# Altium footprint library Footprints.PcbLib: 52 footprints (part 1 of 4)
Each footprint in its own frame and in the unit in brackets; x right, y up, seen from the top. Pads: shape width x height; smd on the part's side, far side on the other; paste and mask are expansions set on the pad; w line width, h text height; cw(c..) or ccw(c..) is an arc to the next point about the centre after c.
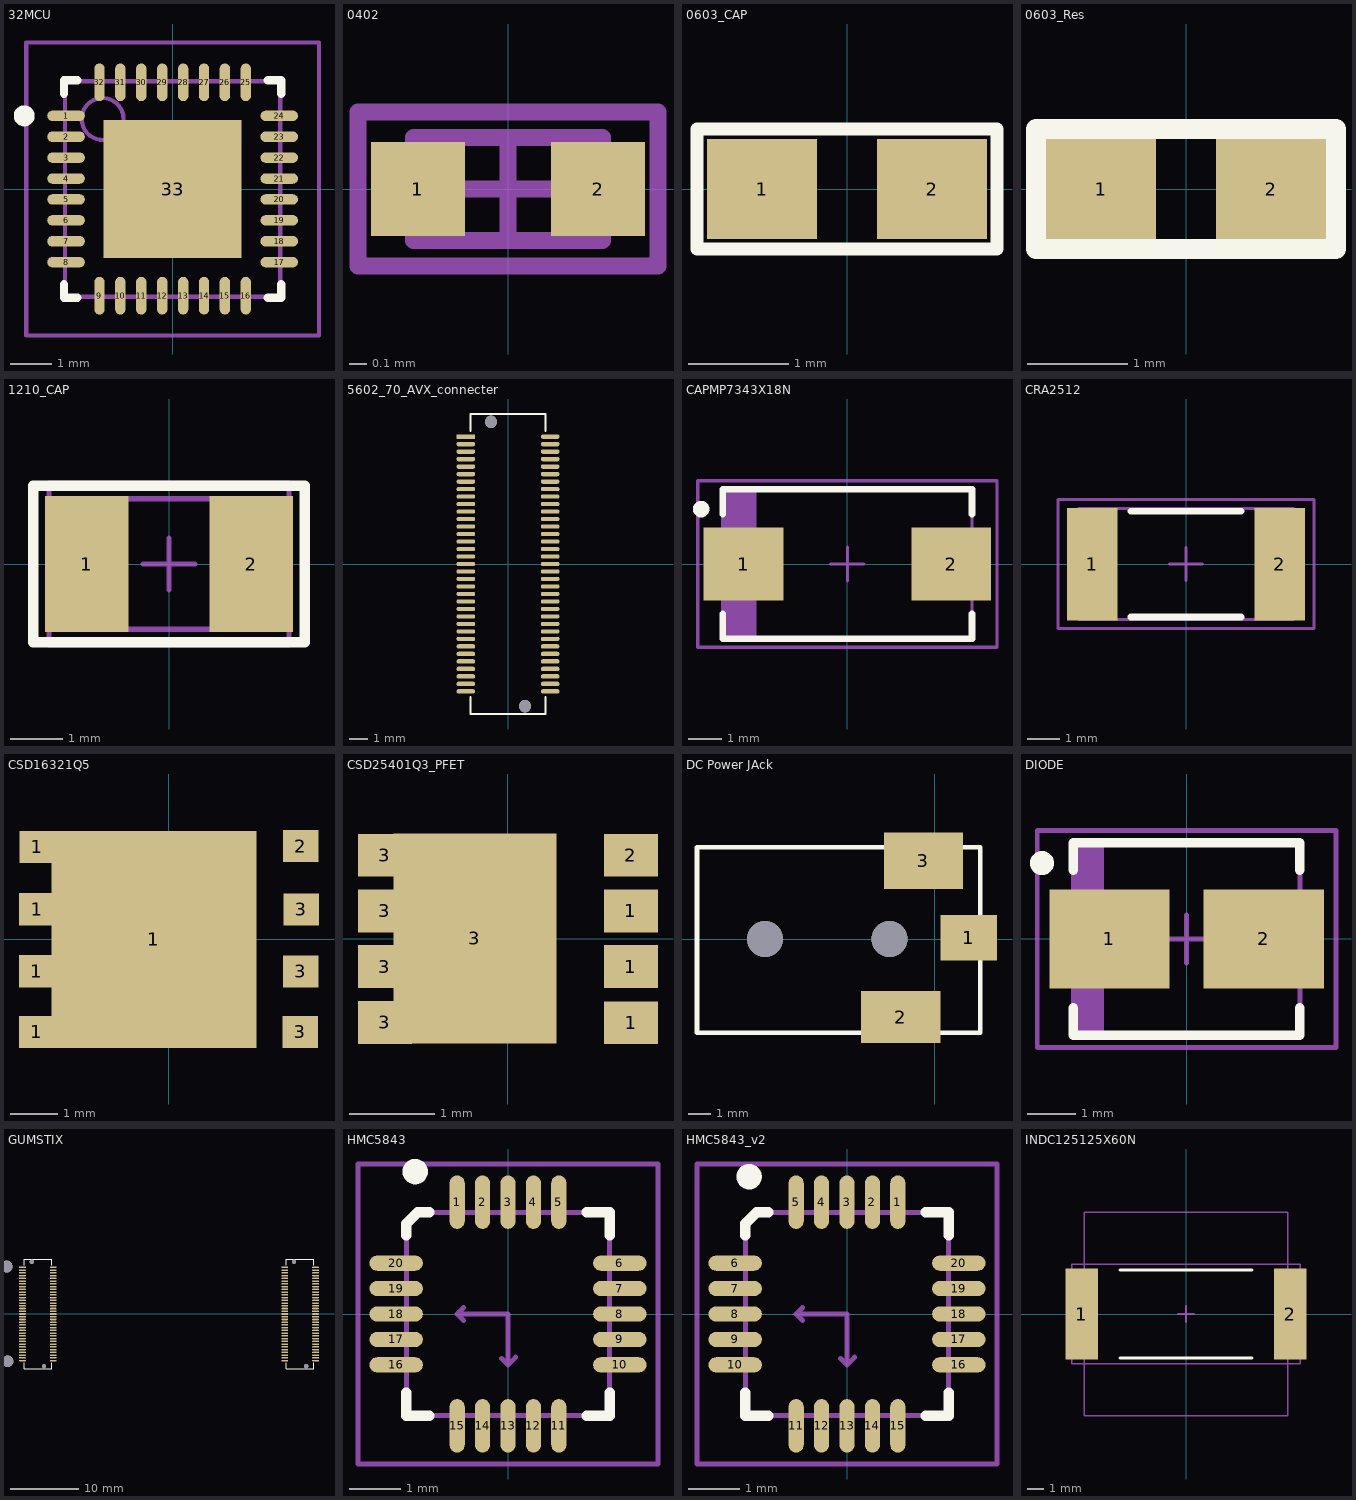
[diagram p0: the footprints below, top view; thin cyan lines are the x and y axes]

## 32MCU [mm] "32-Pin Quad Flat No-Lead 0.5 mm Pitch, IPC Low Density"
height 1
pads (33):
  oval 0.9x0.25 smd: 1(-2.55,1.75) 2(-2.55,1.25) 3(-2.55,0.75) 4(-2.55,0.25) 5(-2.55,-0.25) 6(-2.55,-0.75) 7(-2.55,-1.25) 8(-2.55,-1.75) 17(2.55,-1.75) 18(2.55,-1.25) 19(2.55,-0.75) 20(2.55,-0.25) 21(2.55,0.25) 22(2.55,0.75) 23(2.55,1.25) 24(2.55,1.75)
  oval 0.25x0.9 smd: 9(-1.75,-2.55) 10(-1.25,-2.55) 11(-0.75,-2.55) 12(-0.25,-2.55) 13(0.25,-2.55) 14(0.75,-2.55) 15(1.25,-2.55) 16(1.75,-2.55) 25(1.75,2.55) 26(1.25,2.55) 27(0.75,2.55) 28(0.25,2.55) 29(-0.25,2.55) 30(-0.75,2.55) 31(-1.25,2.55) 32(-1.75,2.55)
  rect 3.3x3.3 smd: 33(0,0)
Top Overlay:
  circle w0.25: c-3.55,1.75 r0.125
  lines w0.2: -2.6,-2.275 -2.6,-2.6 -2.275,-2.6 ; -2.6,2.275 -2.6,2.6 -2.275,2.6 ; 2.275,-2.6 2.6,-2.6 2.6,-2.275 ; 2.275,2.6 2.6,2.6 2.6,2.275
Mechanical 13:
  circle w0.1: c-1.675,1.675 r0.5
  lines w0.1: -2.575,-2.575 2.575,-2.575 2.575,2.575 -2.575,2.575 -2.575,-2.575
Mechanical 15:
  lines w0.1: -0.5,0 0.5,0 ; 0,-0.5 0,0.5 ; -3.5,-3.5 3.5,-3.5 3.5,3.5 -3.5,3.5 -3.5,-3.5
3D body: height 1, standoff 0, extent -2.575,-2.575 2.575,2.575

## 0402 [mm]
height 0.56
pads (2):
  rect 0.55x0.55 smd: 1(-0.525,0) 2(0.525,0)
Mechanical 13:
  lines w0.1: -0.55,-0.3 -0.55,0.3 0.55,0.3 0.55,-0.3 -0.55,-0.3
Mechanical 15:
  lines w0.1: -0.3,0 0.3,0 ; 0,-0.3 0,0.3 ; -0.875,-0.45 -0.875,0.45 0.875,0.45 0.875,-0.45 -0.875,-0.45
3D body: height 0.56, standoff 0, extent -0.55,-0.3 0.55,0.3

## 0603_CAP [mm] "Chip Resistor; Body 1.6 x 0.8 mm (LxW typ)"
height 1.35
pads (2):
  rect 1.1x1 smd: 1(-0.85,0) 2(0.85,0)
Top Overlay:
  lines w0.127: -1.5,-0.6 -1.5,0.6 1.5,0.6 1.5,-0.6 -1.5,-0.6
3D body: height 1, standoff 0, extent -0.9,-0.6 0.9,0.6

## 0603_Res [mm] "Chip Resistor; Body 1.6 x 0.8 mm (LxW typ)"
height 1.35
pads (2):
  rect 1.1x1 smd: 1(-0.85,0) 2(0.85,0)
Top Overlay:
  lines w0.2: -1.5,-0.6 -1.5,0.6 1.5,0.6 1.5,-0.6 -1.5,-0.6
3D body: height 1, standoff 0, extent -0.9,-0.6 0.9,0.6

## 1210_CAP [mm] "Chip Capacitor, 2-Leads, Body 3.2x2.5mm, IPC Medium Density"
height 1.6
pads (2):
  rect 1.6x2.6 smd: 1(-1.575,0) 2(1.575,0)
Top Overlay:
  lines w0.2: -2.6,-1.5 -2.6,1.5 2.6,1.5 2.6,-1.5 -2.6,-1.5
Mechanical 13:
  lines w0.1: -1.6,-1.25 1.6,-1.25 1.6,1.25 -1.6,1.25 -1.6,-1.25
Mechanical 15:
  lines w0.1: -0.5,0 0.5,0 ; 0,-0.5 0,0.5 ; -2.3,-1.55 2.3,-1.55 2.3,1.55 -2.3,1.55 -2.3,-1.55
3D body: height 1.6, standoff 0, extent -1.6,-1.25 1.6,1.25

## 5602_70_AVX_connecter [mm]
pads (70):
  rect 1x0.23 smd: 1(-2.25,6.8)
  oval 1x0.23 smd: 2(-2.25,6.4) 3(-2.25,6) 4(-2.25,5.6) 5(-2.25,5.2) 6(-2.25,4.8) 7(-2.25,4.4) 8(-2.25,4) 9(-2.25,3.6) 10(-2.25,3.2) 11(-2.25,2.8) 12(-2.25,2.4) 13(-2.25,2) 14(-2.25,1.6) 15(-2.25,1.2) 16(-2.25,0.8) 17(-2.25,0.4) 18(-2.25,0) 19(-2.25,-0.4) 20(-2.25,-0.8) 21(-2.25,-1.2) 22(-2.25,-1.6) 23(-2.25,-2) 24(-2.25,-2.4) 25(-2.25,-2.8) 26(-2.25,-3.2) 27(-2.25,-3.6) 28(-2.25,-4) 29(-2.25,-4.4) 30(-2.25,-4.8) 31(-2.25,-5.2) 32(-2.25,-5.6) 33(-2.25,-6) 34(-2.25,-6.4) 35(-2.25,-6.8) 36(2.25,-6.8) 37(2.25,-6.4) 38(2.25,-6) 39(2.25,-5.6) 40(2.25,-5.2) 41(2.25,-4.8) 42(2.25,-4.4) 43(2.25,-4) 44(2.25,-3.6) 45(2.25,-3.2) 46(2.25,-2.8) 47(2.25,-2.4) 48(2.25,-2) 49(2.25,-1.6) 50(2.25,-1.2) 51(2.25,-0.8) 52(2.25,-0.4) 53(2.25,0) 54(2.25,0.4) 55(2.25,0.8) 56(2.25,1.2) 57(2.25,1.6) 58(2.25,2) 59(2.25,2.4) 60(2.25,2.8) 61(2.25,3.2) 62(2.25,3.6) 63(2.25,4) 64(2.25,4.4) 65(2.25,4.8) 66(2.25,5.2) 67(2.25,5.6) 68(2.25,6) 69(2.25,6.4) 70(2.25,6.8)
via -0.9,7.6 diameter 0.65 hole 0.65
via 0.9,-7.6 diameter 0.65 hole 0.65
Top Overlay:
  lines w0.127: -2,-7.1 -2,-8.01 2,-8.01 2,-7.1 ; -2,7.1 -2,8.01 2,8.01 2,7.1
3D body: height 1.45, standoff 0, extent -2,-8 2,8
3D body: height 0, standoff -0.45, extent 0.575,-7.925 1.222,-7.276
3D body: height 0, standoff -0.45, extent -1.225,7.275 -0.578,7.924

## CAPMP7343X18N [mm] "Molded Capacitor, 2-Leads, Body 7.3x4.3mm, IPC Medium Density"
height 1.8
pads (2):
  rect 2.4x2.2 smd: 1(-3.125,0) 2(3.125,0)
Top Overlay:
  circle w0.25: c-4.4,1.65 r0.125
  lines w0.2: -3.75,-1.5 -3.75,-2.25 3.75,-2.25 3.75,-1.5 ; -3.75,1.5 -3.75,2.25 3.75,2.25 3.75,1.5
Mechanical 13:
  rectangle: -3.75,-2.25 -2.741,2.25
  lines w0.1: -3.75,-2.25 -3.75,2.25 3.75,2.25 3.75,-2.25 -3.75,-2.25
Mechanical 15:
  lines w0.1: -0.5,0 0.5,0 ; 0,-0.5 0,0.5 ; -4.5,-2.5 -4.5,2.5 4.5,2.5 4.5,-2.5 -4.5,-2.5
3D body: height 1.8, standoff 0, extent -3.75,-2.25 3.75,2.25

## CRA2512 [mm] "Chip Resistor, 2-Leads, Body 6.4x3.2mm, IPC Medium Density"
height 0.8
pads (2):
  rect 1.55x3.45 smd: 1(-2.875,0) 2(2.875,0)
Top Overlay:
  lines w0.2: -1.7,-1.625 1.7,-1.625 ; -1.7,1.625 1.7,1.625
Mechanical 13:
  lines w0.1: -3.3,-1.7 3.3,-1.7 3.3,1.7 -3.3,1.7 -3.3,-1.7
Mechanical 15:
  lines w0.1: -0.5,0 0.5,0 ; 0,-0.5 0,0.5 ; -3.925,-1.975 3.925,-1.975 3.925,1.975 -3.925,1.975 -3.925,-1.975
3D body: height 0.8, standoff 0, extent -3.3,-1.7 3.3,1.7

## CSD16321Q5 [mm]
height 1.05
pads (9):
  rect 0.75x0.675 smd: 1(-2.775,-0.678) 1(-2.772,-1.951) 1(-2.77,0.625) 1(-2.767,1.933) 2(2.765,1.951) 3(2.755,-1.949) 3(2.765,-0.679) 3(2.775,0.621)
  rect 4.3x4.56 smd: 1(-0.315,-0.009)
3D body: height 1.05, standoff 0, extent -3.145,-2.289 3.135,2.271

## CSD25401Q3_PFET [mm]
height 1.05
pads (9):
  rect 0.63x0.5 smd: 1(1.435,-0.325) 1(1.435,0.325) 1(1.435,-0.98) 2(1.435,0.975) 3(-1.435,-0.975) 3(-1.435,-0.325) 3(-1.435,0.325) 3(-1.435,0.975)
  rect 1.9x2.45 smd: 3(-0.385,0.005)
3D body: height 1.05, standoff 0, extent -1.815,-1.325 1.785,1.275

## DC Power JAck [mm] "DC Power Jack, 2.5mm,  PJ1-022-SMT"
pads (3):
  rect 2.5x2 smd: 1(1.5,0.05)
  rect 3.5x2.3 smd: 2(-1.5,-3.45)
  rect 3.5x2.5 smd: 3(-0.5,3.45)
via -7.5,0 diameter 1.6 hole 1.6
via -2,0 diameter 1.6 hole 1.6
Top Overlay:
  lines w0.2: -10.5,-4.15 2,-4.15 2,4.05 -10.5,4.05 -10.5,-4.15
3D body: height 5, standoff -0.8, extent -10.5,-4.15 2,4.05

## DIODE [mm] "Molded Diode, 2-Leads, Body 4.4x3.6mm, IPC Medium Density"
height 2.44
pads (2):
  rect 2.5x2.05 smd: 1(-1.6,0) 2(1.6,0)
Top Overlay:
  circle w0.25: c-3,1.575 r0.125
  lines w0.2: -2.35,-1.425 -2.35,-2 2.35,-2 2.35,-1.425 ; -2.35,1.425 -2.35,2 2.35,2 2.35,1.425
Mechanical 13:
  rectangle: -2.35,-1.97 -1.718,1.97
  lines w0.1: -2.35,-1.97 -2.35,1.97 2.35,1.97 2.35,-1.97 -2.35,-1.97
Mechanical 15:
  lines w0.1: -0.5,0 0.5,0 ; 0,-0.5 0,0.5 ; -3.1,-2.25 -3.1,2.25 3.1,2.25 3.1,-2.25 -3.1,-2.25
3D body: height 2.44, standoff 0, extent -2.35,-1.97 2.35,1.97

## GUMSTIX [mm]
pads (140):
  rect 1x0.23 smd: 1(42.097,6.8) 71(3.795,6.8)
  oval 1x0.23 smd: 2(42.097,6.4) 3(42.097,6) 4(42.097,5.6) 5(42.097,5.2) 6(42.097,4.8) 7(42.097,4.4) 8(42.097,4) 9(42.097,3.6) 10(42.097,3.2) 11(42.097,2.8) 12(42.097,2.4) 13(42.097,2) 14(42.097,1.6) 15(42.097,1.2) 16(42.097,0.8) 17(42.097,0.4) 18(42.097,0) 19(42.097,-0.4) 20(42.097,-0.8) 21(42.097,-1.2) 22(42.097,-1.6) 23(42.097,-2) 24(42.097,-2.4) 25(42.097,-2.8) 26(42.097,-3.2) 27(42.097,-3.6) 28(42.097,-4) 29(42.097,-4.4) 30(42.097,-4.8) 31(42.097,-5.2) 32(42.097,-5.6) 33(42.097,-6) 34(42.097,-6.4) 35(42.097,-6.8) 36(46.597,-6.8) 37(46.597,-6.4) 38(46.597,-6) 39(46.597,-5.6) 40(46.597,-5.2) 41(46.597,-4.8) 42(46.597,-4.4) 43(46.597,-4) 44(46.597,-3.6) 45(46.597,-3.2) 46(46.597,-2.8) 47(46.597,-2.4) 48(46.597,-2) 49(46.597,-1.6) 50(46.597,-1.2) 51(46.597,-0.8) 52(46.597,-0.4) 53(46.597,0) 54(46.597,0.4) 55(46.597,0.8) 56(46.597,1.2) 57(46.597,1.6) 58(46.597,2) 59(46.597,2.4) 60(46.597,2.8) 61(46.597,3.2) 62(46.597,3.6) 63(46.597,4) 64(46.597,4.4) 65(46.597,4.8) 66(46.597,5.2) 67(46.597,5.6) 68(46.597,6) 69(46.597,6.4) 70(46.597,6.8) 72(3.795,6.4) 73(3.795,6) 74(3.795,5.6) 75(3.795,5.2) 76(3.795,4.8) 77(3.795,4.4) 78(3.795,4) 79(3.795,3.6) 80(3.795,3.2) 81(3.795,2.8) 82(3.795,2.4) 83(3.795,2) 84(3.795,1.6) 85(3.795,1.2) 86(3.795,0.8) 87(3.795,0.4) 88(3.795,0) 89(3.795,-0.4) 90(3.795,-0.8) 91(3.795,-1.2) 92(3.795,-1.6) 93(3.795,-2) 94(3.795,-2.4) 95(3.795,-2.8) 96(3.795,-3.2) 97(3.795,-3.6) 98(3.795,-4) 99(3.795,-4.4) 100(3.795,-4.8) 101(3.795,-5.2) 102(3.795,-5.6) 103(3.795,-6) 104(3.795,-6.4) 105(3.795,-6.8) 106(8.295,-6.8) 107(8.295,-6.4) 108(8.295,-6) 109(8.295,-5.6) 110(8.295,-5.2) 111(8.295,-4.8) 112(8.295,-4.4) 113(8.295,-4) 114(8.295,-3.6) 115(8.295,-3.2) 116(8.295,-2.8) 117(8.295,-2.4) 118(8.295,-2) 119(8.295,-1.6) 120(8.295,-1.2) 121(8.295,-0.8) 122(8.295,-0.4) 123(8.295,0) 124(8.295,0.4) 125(8.295,0.8) 126(8.295,1.2) 127(8.295,1.6) 128(8.295,2) 129(8.295,2.4) 130(8.295,2.8) 131(8.295,3.2) 132(8.295,3.6) 133(8.295,4) 134(8.295,4.4) 135(8.295,4.8) 136(8.295,5.2) 137(8.295,5.6) 138(8.295,6) 139(8.295,6.4) 140(8.295,6.8)
via 5.145,7.6 diameter 0.65 hole 0.65
via 6.945,-7.6 diameter 0.65 hole 0.65
via 45.247,-7.6 diameter 0.65 hole 0.65
via 43.447,7.6 diameter 0.65 hole 0.65
via 1.6,-6.9 diameter 1.75 hole 1.65
via 1.5,6.9 diameter 1.75 hole 1.65
via 56.4,6.9 diameter 1.75 hole 1.65
via 56.4,-6.9 diameter 1.75 hole 1.65
Top Overlay:
  lines w0.127: 4.045,-7.1 4.045,-8.01 8.045,-8.01 8.045,-7.1 ; 4.045,7.1 4.045,8.01 8.045,8.01 8.045,7.1 ; 42.347,-7.1 42.347,-8.01 46.347,-8.01 46.347,-7.1 ; 42.347,7.1 42.347,8.01 46.347,8.01 46.347,7.1
3D body: height 1.45, standoff 0, extent 42.348,-8 46.348,8
3D body: height 1.45, standoff 0, extent 4.045,-8 8.045,8
3D body: height 0, standoff -0.45, extent 6.62,-7.925 7.267,-7.276
3D body: height 0, standoff -0.45, extent 4.82,7.275 5.467,7.924
3D body: height 1.5, standoff 0, extent 31.5,-8 41,8
3D body: height 1.5, standoff 0, extent 9,-8 18,8
3D body: height 4.16, standoff 0.17, extent 0,-8.6 58,8.6
3D body: height 1.5, standoff 0, extent 47.5,-8 53.5,8

## HMC5843 [mm] "LCC, 20-Pins, Body 4.0x4.0mm (max), Pitch 0.50mm, IPC Medium Density"
height 1.46
pads (20):
  oval 0.3x1.05 smd: 1(-1,2.2) 2(-0.5,2.2) 3(0,2.2) 4(0.5,2.2) 5(1,2.2) 11(1,-2.2) 12(0.5,-2.2) 13(0,-2.2) 14(-0.5,-2.2) 15(-1,-2.2)
  oval 1.05x0.3 smd: 6(2.2,1) 7(2.2,0.5) 8(2.2,0) 9(2.2,-0.5) 10(2.2,-1) 16(-2.2,-1) 17(-2.2,-0.5) 18(-2.2,0) 19(-2.2,0.5) 20(-2.2,1)
Top Overlay:
  circle w0.25: c-1.825,2.8 r0.125
  lines w0.2: -2,-1.55 -2,-2 -1.55,-2 ; -2,1.55 -2,1.775 -1.775,2 -1.55,2 ; 1.55,-2 2,-2 2,-1.55 ; 1.55,2 2,2 2,1.55
Mechanical 13:
  lines w0.1: -2,-2 -2,1.775 -1.775,2 2,2 2,-2 -2,-2
Mechanical 15:
  lines w0.1: -0.875,-0.125 -1,0 ; -0.875,0.125 -1,0 ; -0.125,-0.875 0,-1 0,0 -1,0 ; 0.007,-0.993 0.15,-0.85 ; -2.95,-2.95 -2.95,2.95 2.95,2.95 2.95,-2.95 -2.95,-2.95
  text "X" at 0.3,-0.95 h0.4
  text "Y" at -0.825,0.2 h0.4
3D body: height 1.46, standoff 0, extent -2,-2 2,2

## HMC5843_v2 [mm] "LCC, 20-Pins, Body 4.0x4.0mm (max), Pitch 0.50mm, IPC Medium Density"
height 1.46
pads (20):
  oval 0.3x1.05 smd: 1(1,2.2) 2(0.5,2.2) 3(0,2.2) 4(-0.5,2.2) 5(-1,2.2) 11(-1,-2.2) 12(-0.5,-2.2) 13(0,-2.2) 14(0.5,-2.2) 15(1,-2.2)
  oval 1.05x0.3 smd: 6(-2.2,1) 7(-2.2,0.5) 8(-2.2,0) 9(-2.2,-0.5) 10(-2.2,-1) 16(2.2,-1) 17(2.2,-0.5) 18(2.2,0) 19(2.2,0.5) 20(2.2,1)
Top Overlay:
  circle w0.25: c-1.925,2.7 r0.125
  lines w0.2: -2,-1.55 -2,-2 -1.55,-2 ; -2,1.55 -2,1.775 -1.775,2 -1.55,2 ; 1.55,-2 2,-2 2,-1.55 ; 1.55,2 2,2 2,1.55
Mechanical 13:
  lines w0.1: -2,-2 -2,1.775 -1.775,2 2,2 2,-2 -2,-2
Mechanical 15:
  lines w0.1: -0.875,-0.125 -1,0 ; -0.875,0.125 -1,0 ; -0.125,-0.875 0,-1 0,0 -1,0 ; 0.007,-0.993 0.15,-0.85 ; -2.95,-2.95 -2.95,2.95 2.95,2.95 2.95,-2.95 -2.95,-2.95
  text "X" at 0.3,-0.95 h0.4
  text "Y" at -0.825,0.2 h0.4
3D body: height 1.46, standoff 0, extent -2,-2 2,2

## INDC125125X60N [mm] "Chip Inductor, 2-Leads, Body 12.5x12.5mm, IPC Medium Density"
height 6
pads (2):
  rect 2x5.6 smd: 1(-6.4,0) 2(6.4,0)
Top Overlay:
  lines w0.2: -4.05,-2.7 4.05,-2.7 ; -4.05,2.7 4.05,2.7
Mechanical 13:
  lines w0.1: -6.25,-6.25 6.25,-6.25 6.25,6.25 -6.25,6.25 -6.25,-6.25
Mechanical 15:
  lines w0.1: -0.5,0 0.5,0 ; 0,-0.5 0,0.5 ; -7,-3.05 7,-3.05 7,3.05 -7,3.05 -7,-3.05
3D body: height 6, standoff 0, extent -6.25,-6.25 6.25,6.25